# Altium schematic symbol library RC0402FR-075K1L.SchLib: 1 symbol
Pins are listed as number, name and electrical type; pins without a type are passive.

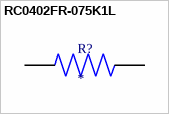
[diagram p0: symbol RC0402FR-075K1L]

## RC0402FR-075K1L
designator R?
Res Thick Film 1.0 x 0.5 mm 5.1K Ohm 1% 0.063W(1/16W) 100ppm/ C Molded SMD Paper T/R <a href="https://pricing.snapeda.com/parts/RC0402FR-075K1L/Yageo/view-part?ref=eda">Check availability</a>; MF: {'manufacturer': u'YAGEO'}; Package: None; Price: None; Value: *; MP: RC0402FR-075K1L; Availability: Unavailable
footprint RESC1005X40N
pins: 1, 2